# Altium footprint library HDRV14W64P254_7X2_1778X483X808N.PcbLib: 1 footprints
Each footprint in its own frame and in the unit in brackets; x right, y up, seen from the top. Pads: shape width x height; smd on the part's side, far side on the other; paste and mask are expansions set on the pad; w line width, h text height; cw(c..) or ccw(c..) is an arc to the next point about the centre after c.
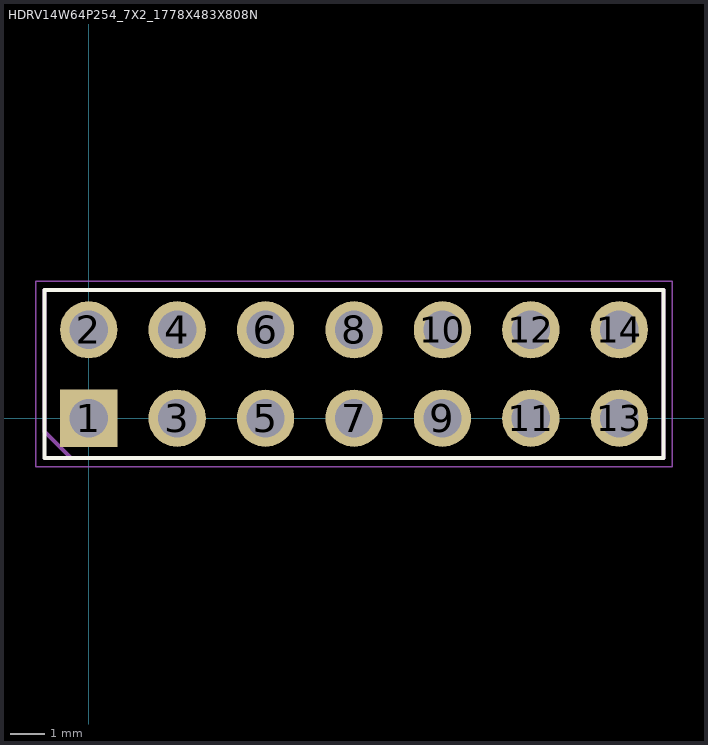
[diagram p0: the footprint, top view; thin cyan lines are the x and y axes]

## HDRV14W64P254_7X2_1778X483X808N [mil] "Header, Vertical Non-Shroulded, 2.54 mm pitch; 0.67 mm lead width, 14 pins, 2 rows, 7 pins per row, 17.78 mm L X 4.83 mm W X 8.08 mm H Body"
height 318.11
pads (14):
  rect 64.8x64.8 / inner round 64.8 / far side rect 64.8x64.8 hole 43.23 paste-64.8: 1(0,0)
  round 64.8 hole 43.23 paste-64.8: 2(0,100) 3(100,0) 4(100,100) 5(200,0) 6(200,100) 7(300,0) 8(300,100) 9(400,0) 10(400,100) 11(500,0) 12(500,100) 13(600,0) 14(600,100)
Top Overlay:
  lines w4.72: -50,-45.08 650,-45.08 650,145.08 -50,145.08 -50,-45.08
Mechanical 3:
  lines w4.72: -50,-15 -50,145.08 650,145.08 650,-45.08 -19.92,-45.08 -50,-15
Mechanical 5:
  lines w0.98: -50,-45.08 650,-45.08 650,145.08 -50,145.08 -50,-45.08 ; -13.19,-13.19 13.19,-13.19 13.19,13.19 -13.19,13.19 -13.19,-13.19 ; -13.19,86.81 13.19,86.81 13.19,113.19 -13.19,113.19 -13.19,86.81 ; 86.81,-13.19 113.19,-13.19 113.19,13.19 86.81,13.19 86.81,-13.19 ; 86.81,86.81 113.19,86.81 113.19,113.19 86.81,113.19 86.81,86.81 ; 186.81,-13.19 213.19,-13.19 213.19,13.19 186.81,13.19 186.81,-13.19 ; 186.81,86.81 213.19,86.81 213.19,113.19 186.81,113.19 186.81,86.81 ; 286.81,-13.19 313.19,-13.19 313.19,13.19 286.81,13.19 286.81,-13.19 ; 286.81,86.81 313.19,86.81 313.19,113.19 286.81,113.19 286.81,86.81 ; 386.81,-13.19 413.19,-13.19 413.19,13.19 386.81,13.19 386.81,-13.19 ; 386.81,86.81 413.19,86.81 413.19,113.19 386.81,113.19 386.81,86.81 ; 486.81,-13.19 513.19,-13.19 513.19,13.19 486.81,13.19 486.81,-13.19 ; 486.81,86.81 513.19,86.81 513.19,113.19 486.81,113.19 486.81,86.81 ; 586.81,-13.19 613.19,-13.19 613.19,13.19 586.81,13.19 586.81,-13.19 ; 586.81,86.81 613.19,86.81 613.19,113.19 586.81,113.19 586.81,86.81
Mechanical 7:
  circle w1.97: c0,0 r9.84
  lines w1.97: -13.78,0 13.78,0 ; 0,-13.78 0,13.78 ; -59.84,-54.92 659.84,-54.92 659.84,154.92 -59.84,154.92 -59.84,-54.92
Mechanical 9:
  text "'.Designator'" at 71,39.33 h40
3D body "HDRV14W64P254_7X2_1778X483X808.STEP": height 318.11, standoff -78.74, extent -50,-45.08 650,145.08
3D body: height 685.04, standoff 0, extent -59.84,-54.92 659.84,154.92